# Altium footprint library Exam.PcbLib: 6 footprints
Each footprint in its own frame and in the unit in brackets; x right, y up, seen from the top. Pads: shape width x height; smd on the part's side, far side on the other; paste and mask are expansions set on the pad; w line width, h text height; cw(c..) or ccw(c..) is an arc to the next point about the centre after c.
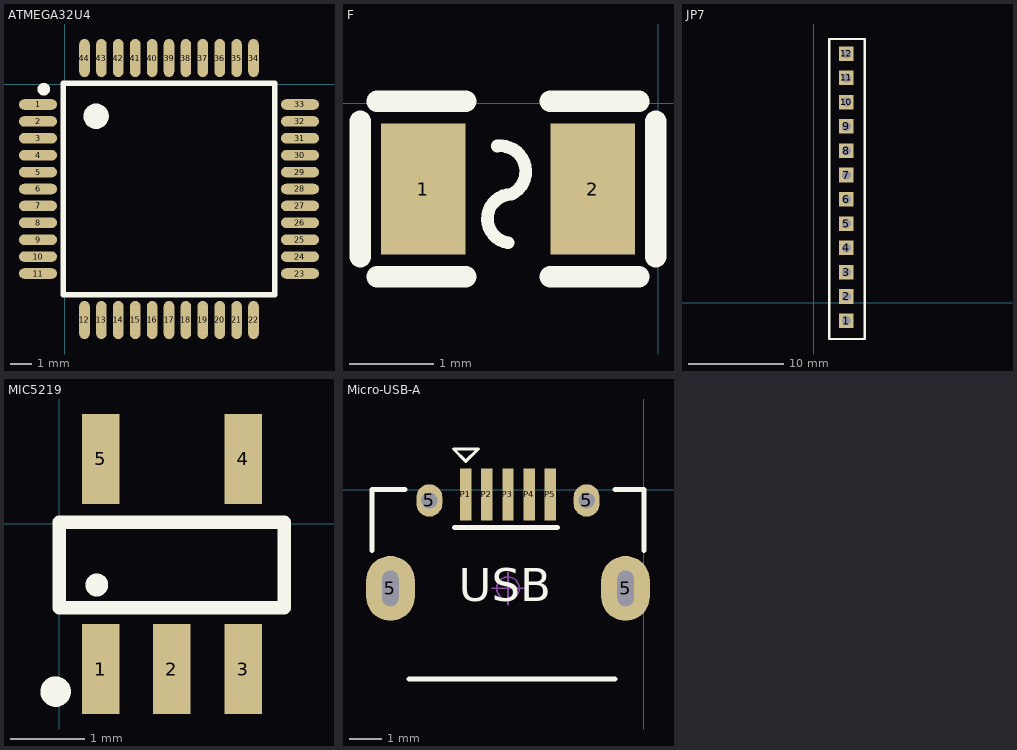
[diagram p0: the footprints below, top view; thin cyan lines are the x and y axes]

## ATMEGA32U4 [mm]
pads (44):
  oval 1.8x0.5 smd: 1(-1.259,-0.965) 2(-1.259,-1.765) 3(-1.259,-2.565) 4(-1.259,-3.365) 5(-1.259,-4.165) 6(-1.259,-4.965) 7(-1.259,-5.765) 8(-1.259,-6.565) 9(-1.259,-7.365) 10(-1.259,-8.165) 11(-1.259,-8.965) 23(11.141,-8.965) 24(11.141,-8.165) 25(11.141,-7.365) 26(11.141,-6.565) 27(11.141,-5.765) 28(11.141,-4.965) 29(11.141,-4.165) 30(11.141,-3.365) 31(11.141,-2.565) 32(11.141,-1.765) 33(11.141,-0.965)
  oval 0.5x1.8 smd: 12(0.941,-11.165) 13(1.741,-11.165) 14(2.541,-11.165) 15(3.341,-11.165) 16(4.141,-11.165) 17(4.941,-11.165) 18(5.741,-11.165) 19(6.541,-11.165) 20(7.341,-11.165) 21(8.141,-11.165) 22(8.941,-11.165) 34(8.941,1.235) 35(8.141,1.235) 36(7.341,1.235) 37(6.541,1.235) 38(5.741,1.235) 39(4.941,1.235) 40(4.141,1.235) 41(3.341,1.235) 42(2.541,1.235) 43(1.741,1.235) 44(0.941,1.235)
Top Overlay:
  lines w0.254: -0.059,-9.965 9.941,-9.965 9.941,0.035 -0.059,0.035 -0.059,-9.965
  lines w0.3: -0.835,-0.243 cw(c-0.985,-0.242) -0.835,-0.241
  lines w0.6: 1.791,-1.521 cw(c1.491,-1.523) 1.791,-1.516
Mechanical 15:
  lines w0.003: 5.766,-4.838 5.767,-4.838

## F [mm]
pads (2):
  rect 1x1.55 smd: 1(-2.778,-1.016) 2(-0.778,-1.016)
Top Overlay:
  lines w0.15: -1.905,-0.508 cw(c-1.869,-0.807) -1.741,-1.08 ; -1.778,-1.651 cw(c-1.734,-1.367) -1.742,-1.079
  lines w0.254: -3.528,-1.816 -3.528,-0.216 ; -3.328,-2.056 -2.278,-2.056 ; -3.328,0.024 -2.278,0.024 ; -1.278,-2.056 -0.228,-2.056 ; -1.278,0.024 -0.228,0.024 ; -0.028,-1.816 -0.028,-0.216

## JP7 [mil]
pads (12):
  rect 60x60 hole 35 slot 35.2 at 0 deg: 1(135,-75) 2(135,25) 3(135,125) 4(135,225) 5(135,325) 6(135,425) 7(135,525) 8(135,625) 9(135,725) 10(135,825) 11(135,925) 12(135,1025)
Top Overlay:
  lines w10: 206.89,-150 65,-150 65,1085 85,1085 206.89,1085 ; 210,-150 210,1085

## MIC5219 [mm]
pads (5):
  rect 0.5x1.2 smd: 1(0.549,-1.94) 2(1.499,-1.94) 3(2.449,-1.94) 4(2.449,0.86) 5(0.549,0.86)
Top Overlay:
  lines w0.178: -0.001,-1.124 2.999,-1.124 2.999,0.019 -0.001,0.019 -0.001,-1.124
  lines w0.254: -0.051,-2.166 ccw(c-0.051,-2.242) -0.044,-2.166 ; 0.498,-0.794 ccw(c0.498,-0.819) 0.502,-0.794
Mechanical 15:
  lines w0.003: 1.924,-0.413 1.925,-0.413

## Micro-USB-A [mm]
pads (9):
  oval 1.5x2 hole 0.5 slot 1.1 at 90 deg: 5(-7.816,-3.048) 5(-0.566,-3.048)
  oval 0.8x1 hole 0.5: 5(-6.616,-0.338) 5(-1.766,-0.338)
  rect 0.35x1.6 smd: P1(-5.491,-0.148) P2(-4.841,-0.148) P3(-4.191,-0.148) P4(-3.541,-0.148) P5(-2.891,-0.148)
Top Overlay:
  lines w0.1: -5.872,1.249 -5.11,1.249 -5.491,0.868 -5.872,1.249
  lines w0.152: -8.382,-1.88 -8.382,0 -7.366,0 ; -7.239,-5.842 -0.889,-5.842 ; -5.841,-1.173 -2.666,-1.173 ; -0.889,0 0,0 0,-1.88
  text "USB" at -5.715,-3.45 h1.02
Mechanical 15:
  circle w0.05: c-4.191,-3.048 r0.35
  lines w0.05: -4.691,-3.048 -3.691,-3.048 ; -4.191,-3.548 -4.191,-2.548
3D body "USB_MICRO_a.STEP": height 2.8, standoff -0.95, extent -8.192,-5.758 -0.19,-0.158

## USB [mm]